# Altium schematic symbol library TPS2051B.SchLib: 1 symbol
Pins are listed as number, name and electrical type; pins without a type are passive.

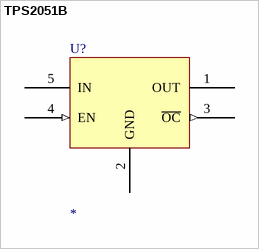
[diagram p0: symbol TPS2051B]

## TPS2051B
designator U?
pins: 1 OUT (power), 2 GND (power), 3 ~{OC} (out), 4 EN (in), 5 IN (power)